# Altium integrated library BMC1JY0400AN - Copy.IntLib: 1 symbol
Pins are listed as number, name and electrical type; pins without a type are passive.

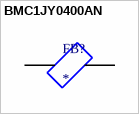
[diagram p0: symbol BMC1JY0400AN]

## BMC1JY0400AN
designator FB?
MP: BMC1JY0400AN; Package: None; Price: None; Value: *; Availability: Unavailable
footprint BEADC1608X95N
pins: 1, 2